# Altium footprint library XILINX-XC7A200T2.PcbLib: 31 footprints (part 2 of 3)
Each footprint in its own frame and in the unit in brackets; x right, y up, seen from the top. Pads: shape width x height; smd on the part's side, far side on the other; paste and mask are expansions set on the pad; w line width, h text height; cw(c..) or ccw(c..) is an arc to the next point about the centre after c.
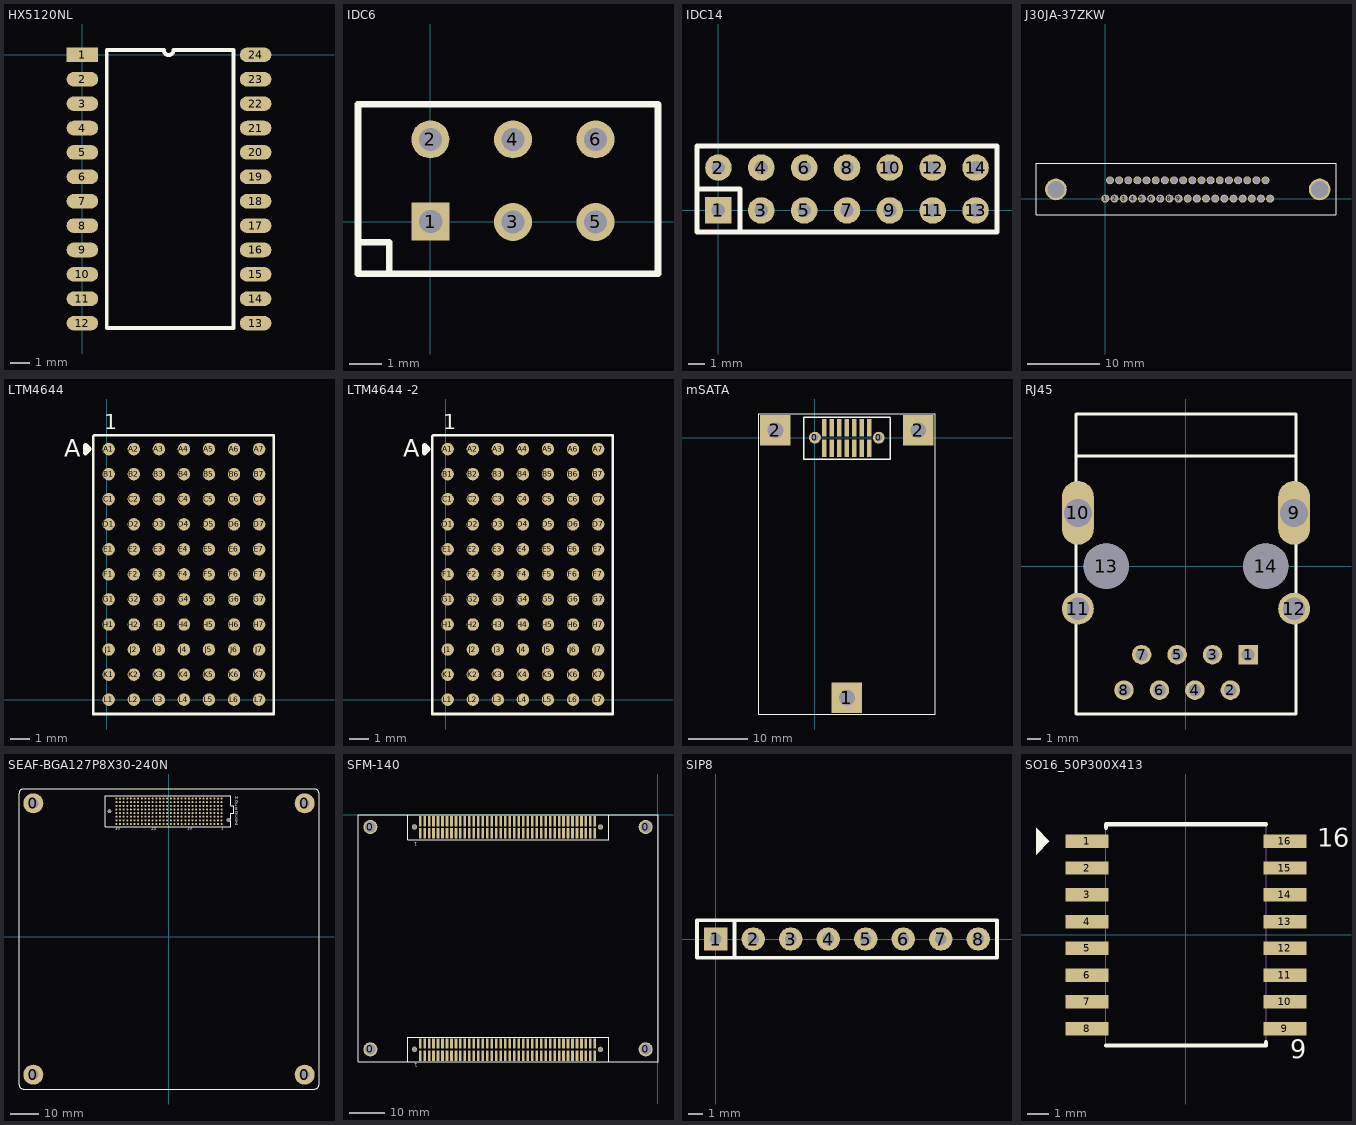
[diagram p1: the footprints below, top view; thin cyan lines are the x and y axes]

## HX5120NL [mm]
pads (24):
  rect 1.65x0.76 smd: 1(0,0)
  oval 1.65x0.76 smd: 2(0,-1.27) 3(0,-2.54) 4(0,-3.81) 5(0,-5.08) 6(0,-6.35) 7(0,-7.62) 8(0,-8.89) 9(0,-10.16) 10(0,-11.43) 11(0,-12.7) 12(0,-13.97) 13(9.02,-13.97) 14(9.02,-12.7) 15(9.02,-11.43) 16(9.02,-10.16) 17(9.02,-8.89) 18(9.02,-7.62) 19(9.02,-6.35) 20(9.02,-5.08) 21(9.02,-3.81) 22(9.02,-2.54) 23(9.02,-1.27) 24(9.02,0)
Top Overlay:
  lines w0.2: 4.745,0.245 cw(c4.495,0.238) 4.245,0.246 1.27,0.246 1.27,-14.224 7.874,-14.224 7.874,0.246 4.745,0.246

## IDC6 [mil]
pads (6):
  rect 46x46 hole 28: 1(0.4,0.44)
  round 46 hole 28: 2(0,100) 3(100,0) 4(100,100) 5(200,0) 6(200,100)
Top Overlay:
  lines w8: -87.6,-24.56 -49.6,-24.56 -49.6,-62.56 ; -87.6,-62.56 -87.6,142.44 275.59,142.21 275.59,-62.55 -87.6,-62.56

## IDC14 [mil]
pads (14):
  rect 62x62 hole 31.5 square: 1(0,0)
  round 62 hole 31.5 square: 2(0,100) 3(100,0) 4(100,100) 5(200,0) 6(200,100) 7(300,0) 8(300,100) 9(400,0) 10(400,100) 11(500,0) 12(500,100) 13(600,0) 14(600,100)
Top Overlay:
  lines w12: -50,50 50,50 50,-50 ; -50,-50 -50,150 650,150 650,-50 -50,-50

## J30JA-37ZKW [mm]
pads (40):
  round 1.1 hole 0.85: 1(0,0) 2(1.27,0) 3(2.54,0) 4(3.81,0) 5(5.08,0) 6(6.35,0) 7(7.62,0) 8(8.89,0) 9(10.16,0) 10(11.43,0) 11(12.7,0) 12(13.97,0) 13(15.24,0) 14(16.51,0) 15(17.78,0) 16(19.05,0) 17(20.32,0) 18(21.59,0) 19(22.86,0) 20(0.635,2.54) 20(0.635,2.54) 21(1.905,2.54) 22(3.175,2.54) 23(4.445,2.54) 24(5.715,2.54) 25(6.985,2.54) 26(8.255,2.54) 27(9.525,2.54) 28(10.795,2.54) 29(12.065,2.54) 30(13.335,2.54) 31(14.605,2.54) 32(15.875,2.54) 33(17.145,2.54) 34(18.415,2.54) 35(19.685,2.54) 36(20.955,2.54) 37(22.225,2.54)
  round 3 hole 2.4: ""(-6.858,1.27) ""(29.742,1.27)
Top Overlay:
  lines w0.127: -9.627,-2.21 31.953,-2.21 32.004,-2.159 32.004,4.877 -9.627,4.877 -9.627,-2.21

## LTM4644 [mm]
pads (77):
  round 0.63 smd: A1(0.102,12.7) A2(1.372,12.7) A3(2.642,12.7) A4(3.912,12.7) A5(5.182,12.7) A6(6.452,12.7) A7(7.722,12.7) B1(0.102,11.43) B2(1.372,11.43) B3(2.642,11.43) B4(3.912,11.43) B5(5.182,11.43) B6(6.452,11.43) B7(7.722,11.43) C1(0.102,10.16) C2(1.372,10.16) C3(2.642,10.16) C4(3.912,10.16) C5(5.182,10.16) C6(6.452,10.16) C7(7.722,10.16) D1(0.102,8.89) D2(1.372,8.89) D3(2.642,8.89) D4(3.912,8.89) D5(5.182,8.89) D6(6.452,8.89) D7(7.722,8.89) E1(0.102,7.62) E2(1.372,7.62) E3(2.642,7.62) E4(3.912,7.62) E5(5.182,7.62) E6(6.452,7.62) E7(7.722,7.62) F1(0.102,6.35) F2(1.372,6.35) F3(2.642,6.35) F4(3.912,6.35) F5(5.182,6.35) F6(6.452,6.35) F7(7.722,6.35) G1(0.102,5.08) G2(1.372,5.08) G3(2.642,5.08) G4(3.912,5.08) G5(5.182,5.08) G6(6.452,5.08) G7(7.722,5.08) H1(0.102,3.81) H2(1.372,3.81) H3(2.642,3.81) H4(3.912,3.81) H5(5.182,3.81) H6(6.452,3.81) H7(7.722,3.81) J1(0.102,2.54) J2(1.372,2.54) J3(2.642,2.54) J4(3.912,2.54) J5(5.182,2.54) J6(6.452,2.54) J7(7.722,2.54) K1(0.102,1.27) K2(1.372,1.27) K3(2.642,1.27) K4(3.912,1.27) K5(5.182,1.27) K6(6.452,1.27) K7(7.722,1.27) L1(0.102,0) L2(1.372,0) L3(2.642,0) L4(3.912,0) L5(5.182,0) L6(6.452,0) L7(7.722,0)
Top Overlay:
  lines w0.127: -0.678,13.357 -0.635,13.4 ; -0.678,13.357 -0.635,13.4 ; -0.678,13.357 -0.678,13.275 -0.678,-0.725 8.472,-0.725 8.472,13.4 -0.635,13.4
  lines w0.254: -1.079,12.509 -0.889,12.7 -1.079,12.89 -1.079,12.509
  text "1" at -0.127,13.716 h0.76
  text "A" at -2.159,12.319 h0.89

## LTM4644 -2 [mm]
pads (77):
  round 0.63 smd: A1(0.102,12.7) A2(1.372,12.7) A3(2.642,12.7) A4(3.912,12.7) A5(5.182,12.7) A6(6.452,12.7) A7(7.722,12.7) B1(0.102,11.43) B2(1.372,11.43) B3(2.642,11.43) B4(3.912,11.43) B5(5.182,11.43) B6(6.452,11.43) B7(7.722,11.43) C1(0.102,10.16) C2(1.372,10.16) C3(2.642,10.16) C4(3.912,10.16) C5(5.182,10.16) C6(6.452,10.16) C7(7.722,10.16) D1(0.102,8.89) D2(1.372,8.89) D3(2.642,8.89) D4(3.912,8.89) D5(5.182,8.89) D6(6.452,8.89) D7(7.722,8.89) E1(0.102,7.62) E2(1.372,7.62) E3(2.642,7.62) E4(3.912,7.62) E5(5.182,7.62) E6(6.452,7.62) E7(7.722,7.62) F1(0.102,6.35) F2(1.372,6.35) F3(2.642,6.35) F4(3.912,6.35) F5(5.182,6.35) F6(6.452,6.35) F7(7.722,6.35) G1(0.102,5.08) G2(1.372,5.08) G3(2.642,5.08) G4(3.912,5.08) G5(5.182,5.08) G6(6.452,5.08) G7(7.722,5.08) H1(0.102,3.81) H2(1.372,3.81) H3(2.642,3.81) H4(3.912,3.81) H5(5.182,3.81) H6(6.452,3.81) H7(7.722,3.81) J1(0.102,2.54) J2(1.372,2.54) J3(2.642,2.54) J4(3.912,2.54) J5(5.182,2.54) J6(6.452,2.54) J7(7.722,2.54) K1(0.102,1.27) K2(1.372,1.27) K3(2.642,1.27) K4(3.912,1.27) K5(5.182,1.27) K6(6.452,1.27) K7(7.722,1.27) L1(0.102,0) L2(1.372,0) L3(2.642,0) L4(3.912,0) L5(5.182,0) L6(6.452,0) L7(7.722,0)
Top Overlay:
  lines w0.127: -0.678,13.357 -0.678,13.275 -0.678,-0.725 8.472,-0.725 8.472,13.4 -0.635,13.4 ; -0.678,13.357 -0.635,13.4 ; -0.678,13.357 -0.635,13.4
  lines w0.254: -1.079,12.509 -1.079,12.89 -0.889,12.7 -1.079,12.509
  text "A" at -2.159,12.319 h0.89
  text "1" at -0.127,13.716 h0.76

## mSATA [mil]
pads (19):
  round 78.74 / inner round 0 / far side round 0 hole 47.24: 0(0,0)
  round 78.74 hole 47.24: 0(425.2,0)
  rect 29x115 smd: 1(63,-71) 2(63,65) 3(113,-71) 4(113,65) 5(163,-71) 6(163,65) 7(213,-71) 8(213,65) 9(263,-71) 10(263,65) 11(313,-71) 12(313,65) 13(363,-71) 14(363,65)
  rect 204.72x204.72 hole 106.3: 1(212.6,-1734.25) 2(-263.78,49.21)
  rect 204.72x204.72 hole 102.36: 2(688.98,49.21)
Top Overlay:
  lines w5: -251.97,36.42 -251.97,39.37 ; -374.02,-1842.52 213.58,-1842.52 801.18,-1842.52 801.18,157.48 213.58,157.48 -374.02,157.48 -374.02,-1842.52
  lines w10: -75,-143.2 501,-143.2 501,136.8 -75,136.8 -75,-143.2

## RJ45 [mil]
height 230.31
pads (14):
  rect 55x55 / inner round 55 / far side rect 55x55 hole 36: 1(175.01,-250.19)
  round 55 hole 36: 2(125.01,-350.19) 3(75.01,-250.19) 4(25.01,-350.19) 5(-24.99,-250.19) 6(-74.99,-350.19) 7(-124.99,-250.19) 8(-174.99,-350.19)
  oval 90x180 hole 78.74: 9(304.92,149.8) 10(-304.92,149.8)
  round 90 hole 63: 11(-304.91,-120.27) 12(304.93,-120.27)
  round 128 hole 128 unplated: 13(-224.99,-0.19) 14(225.01,-0.19)
Top Overlay:
  lines w8: -309.99,310.83 310.01,310.83 ; -309.99,-417.52 -309.99,428.94 310.01,428.94 310.01,-417.52 -309.99,-417.52

## SEAF-BGA127P8X30-240N [mm]
pads (246):
  round 7 hole 3.5: 0(-47.5,-48.325) 0(-47.5,46.675) 0(47.5,-48.325) 0(47.5,46.675)
  round 1.27 hole 1.27: 0(-20.846,43.88) 0(20.834,40.83)
  round 0.7 smd: A1(18.41,39.435) A2(17.14,39.435) A3(15.87,39.435) A4(14.6,39.435) A5(13.33,39.435) A6(12.06,39.435) A7(10.79,39.435) A8(9.52,39.435) A9(8.25,39.435) A10(6.98,39.435) A11(5.71,39.435) A12(4.44,39.435) A13(3.17,39.435) A14(1.9,39.435) A15(0.63,39.435) A16(-0.64,39.435) A17(-1.91,39.435) A18(-3.18,39.435) A19(-4.45,39.435) A20(-5.72,39.435) A21(-6.99,39.435) A22(-8.26,39.435) A23(-9.53,39.435) A24(-10.8,39.435) A25(-12.07,39.435) A26(-13.34,39.435) A27(-14.61,39.435) A28(-15.88,39.435) A29(-17.15,39.435) A30(-18.42,39.435) B1(18.41,40.705) B2(17.14,40.705) B3(15.87,40.705) B4(14.6,40.705) B5(13.33,40.705) B6(12.06,40.705) B7(10.79,40.705) B8(9.52,40.705) B9(8.25,40.705) B10(6.98,40.705) B11(5.71,40.705) B12(4.44,40.705) B13(3.17,40.705) B14(1.9,40.705) B15(0.63,40.705) B16(-0.64,40.705) B17(-1.91,40.705) B18(-3.18,40.705) B19(-4.45,40.705) B20(-5.72,40.705) B21(-6.99,40.705) B22(-8.26,40.705) B23(-9.53,40.705) B24(-10.8,40.705) B25(-12.07,40.705) B26(-13.34,40.705) B27(-14.61,40.705) B28(-15.88,40.705) B29(-17.15,40.705) B30(-18.42,40.705) C1(18.41,41.975) C2(17.14,41.975) C3(15.87,41.975) C4(14.6,41.975) C5(13.33,41.975) C6(12.06,41.975) C7(10.79,41.975) C8(9.52,41.975) C9(8.25,41.975) C10(6.98,41.975) C11(5.71,41.975) C12(4.44,41.975) C13(3.17,41.975) C14(1.9,41.975) C15(0.63,41.975) C16(-0.64,41.975) C17(-1.91,41.975) C18(-3.18,41.975) C19(-4.45,41.975) C20(-5.72,41.975) C21(-6.99,41.975) C22(-8.26,41.975) C23(-9.53,41.975) C24(-10.8,41.975) C25(-12.07,41.975) C26(-13.34,41.975) C27(-14.61,41.975) C28(-15.88,41.975) C29(-17.15,41.975) C30(-18.42,41.975) D1(18.41,43.245) D2(17.14,43.245) D3(15.87,43.245) D4(14.6,43.245) D5(13.33,43.245) D6(12.06,43.245) D7(10.79,43.245) D8(9.52,43.245) D9(8.25,43.245) D10(6.98,43.245) D11(5.71,43.245) D12(4.44,43.245) D13(3.17,43.245) D14(1.9,43.245) D15(0.63,43.245) D16(-0.64,43.245) D17(-1.91,43.245) D18(-3.18,43.245) D19(-4.45,43.245) D20(-5.72,43.245) D21(-6.99,43.245) D22(-8.26,43.245) D23(-9.53,43.245) D24(-10.8,43.245) D25(-12.07,43.245) D26(-13.34,43.245) D27(-14.61,43.245) D28(-15.88,43.245) D29(-17.15,43.245) D30(-18.42,43.245) E1(18.41,44.515) E2(17.14,44.515) E3(15.87,44.515) E4(14.6,44.515) E5(13.33,44.515) E6(12.06,44.515) E7(10.79,44.515) E8(9.52,44.515) E9(8.25,44.515) E10(6.98,44.515) E11(5.71,44.515) E12(4.44,44.515) E13(3.17,44.515) E14(1.9,44.515) E15(0.63,44.515) E16(-0.64,44.515) E17(-1.91,44.515) E18(-3.18,44.515) E19(-4.45,44.515) E20(-5.72,44.515) E21(-6.99,44.515) E22(-8.26,44.515) E23(-9.53,44.515) E24(-10.8,44.515) E25(-12.07,44.515) E26(-13.34,44.515) E27(-14.61,44.515) E28(-15.88,44.515) E29(-17.15,44.515) E30(-18.42,44.515) F1(18.41,45.785) F2(17.14,45.785) F3(15.87,45.785) F4(14.6,45.785) F5(13.33,45.785) F6(12.06,45.785) F7(10.79,45.785) F8(9.52,45.785) F9(8.25,45.785) F10(6.98,45.785) F11(5.71,45.785) F12(4.44,45.785) F13(3.17,45.785) F14(1.9,45.785) F15(0.63,45.785) F16(-0.64,45.785) F17(-1.91,45.785) F18(-3.18,45.785) F19(-4.45,45.785) F20(-5.72,45.785) F21(-6.99,45.785) F22(-8.26,45.785) F23(-9.53,45.785) F24(-10.8,45.785) F25(-12.07,45.785) F26(-13.34,45.785) F27(-14.61,45.785) F28(-15.88,45.785) F29(-17.15,45.785) F30(-18.42,45.785) G1(18.41,47.055) G2(17.14,47.055) G3(15.87,47.055) G4(14.6,47.055) G5(13.33,47.055) G6(12.06,47.055) G7(10.79,47.055) G8(9.52,47.055) G9(8.25,47.055) G10(6.98,47.055) G11(5.71,47.055) G12(4.44,47.055) G13(3.17,47.055) G14(1.9,47.055) G15(0.63,47.055) G16(-0.64,47.055) G17(-1.91,47.055) G18(-3.18,47.055) G19(-4.45,47.055) G20(-5.72,47.055) G21(-6.99,47.055) G22(-8.26,47.055) G23(-9.53,47.055) G24(-10.8,47.055) G25(-12.07,47.055) G26(-13.34,47.055) G27(-14.61,47.055) G28(-15.88,47.055) G29(-17.15,47.055) G30(-18.42,47.055) H1(18.41,48.325) H2(17.14,48.325) H3(15.87,48.325) H4(14.6,48.325) H5(13.33,48.325) H6(12.06,48.325) H7(10.79,48.325) H8(9.52,48.325) H9(8.25,48.325) H10(6.98,48.325) H11(5.71,48.325) H12(4.44,48.325) H13(3.17,48.325) H14(1.9,48.325) H15(0.63,48.325) H16(-0.64,48.325) H17(-1.91,48.325) H18(-3.18,48.325) H19(-4.45,48.325) H20(-5.72,48.325) H21(-6.99,48.325) H22(-8.26,48.325) H23(-9.53,48.325) H24(-10.8,48.325) H25(-12.07,48.325) H26(-13.34,48.325) H27(-14.61,48.325) H28(-15.88,48.325) H29(-17.15,48.325) H30(-18.42,48.325)
Top Overlay:
  lines w0.127: -52.5,-51.825 ccw(c-51,-51.825) -51,-53.325 51,-53.325 ccw(c51,-51.825) 52.5,-51.825 52.5,50.175 ccw(c51,50.175) 51,51.675 -51,51.675 ccw(c-51,50.175) -52.5,50.175 -52.5,-51.825 ; -22.38,38.51 -22.38,49.25 21.53,49.25 21.53,45.874 22.691,45.874 22.691,43.26 21.53,43.26 21.53,38.51 -22.38,38.51
  text "1" at 18.25,37.356 h1
  text "10" at 6.39,37.363 h1
  text "20" at -6.242,37.322 h1
  text "30" at -18.851,37.441 h1
  text "H" at 23.157,48.038 h1
  text "F" at 23.157,45.446 h1
  text "G" at 23.157,46.742 h1
  text "D" at 23.157,42.854 h1
  text "E" at 23.157,44.15 h1
  text "C" at 23.157,41.558 h1
  text "B" at 23.157,40.262 h1
  text "A" at 23.157,38.966 h1

## SFM-140 [mil]
height 230.31
pads (168):
  round 157.48 hole 118.11: 0(-3208.66,-2618.11) 0(-3208.66,-137.8) 0(-137.8,-2618.11) 0(-137.8,-137.8)
  round 60 / inner round 0 / far side round 0 hole 47.24: 0(-2716.73,-2617.11) 0(-2716.73,-136.8) 0(-641.73,-2618.11) 0(-641.73,-137.8)
  rect 29x115 smd: 1(-2653.73,-207.8) 2(-2653.73,-71.8) 3(-2603.73,-207.8) 4(-2603.73,-71.8) 5(-2553.73,-207.8) 6(-2553.73,-71.8) 7(-2503.73,-207.8) 8(-2503.73,-71.8) 9(-2453.73,-207.8) 10(-2453.73,-71.8) 11(-2403.73,-207.8) 12(-2403.73,-71.8) 13(-2353.73,-207.8) 14(-2353.73,-71.8) 15(-2303.73,-207.8) 16(-2303.73,-71.8) 17(-2253.73,-207.8) 18(-2253.73,-71.8) 19(-2203.73,-207.8) 20(-2203.73,-71.8) 21(-2153.73,-207.8) 22(-2153.73,-71.8) 23(-2103.73,-207.8) 24(-2103.73,-71.8) 25(-2053.73,-207.8) 26(-2053.73,-71.8) 27(-2003.73,-207.8) 28(-2003.73,-71.8) 29(-1953.73,-207.8) 30(-1953.73,-71.8) 31(-1903.73,-207.8) 32(-1903.73,-71.8) 33(-1853.73,-207.8) 34(-1853.73,-71.8) 35(-1803.73,-207.8) 36(-1803.73,-71.8) 37(-1753.73,-207.8) 38(-1753.73,-71.8) 39(-1703.73,-207.8) 40(-1703.73,-71.8) 41(-1653.73,-207.8) 42(-1653.73,-71.8) 43(-1603.73,-207.8) 44(-1603.73,-71.8) 45(-1553.73,-207.8) 46(-1553.73,-71.8) 47(-1503.73,-207.8) 48(-1503.73,-71.8) 49(-1453.73,-207.8) 50(-1453.73,-71.8) 51(-1403.73,-207.8) 52(-1403.73,-71.8) 53(-1353.73,-207.8) 54(-1353.73,-71.8) 55(-1303.73,-207.8) 56(-1303.73,-71.8) 57(-1253.73,-207.8) 58(-1253.73,-71.8) 59(-1203.73,-207.8) 60(-1203.73,-71.8) 61(-1153.73,-207.8) 62(-1153.73,-71.8) 63(-1103.73,-207.8) 64(-1103.73,-71.8) 65(-1053.73,-207.8) 66(-1053.73,-71.8) 67(-1003.73,-207.8) 68(-1003.73,-71.8) 69(-953.73,-207.8) 70(-953.73,-71.8) 71(-903.73,-207.8) 72(-903.73,-71.8) 73(-853.73,-207.8) 74(-853.73,-71.8) 75(-803.73,-207.8) 76(-803.73,-71.8) 77(-753.73,-207.8) 78(-753.73,-71.8) 79(-703.73,-207.8) 80(-703.73,-71.8) J2_1(-2653.73,-2688.11) J2_2(-2653.73,-2552.11) J2_3(-2603.73,-2688.11) J2_4(-2603.73,-2552.11) J2_5(-2553.73,-2688.11) J2_6(-2553.73,-2552.11) J2_7(-2503.73,-2688.11) J2_8(-2503.73,-2552.11) J2_9(-2453.73,-2688.11) J2_10(-2453.73,-2552.11) J2_11(-2403.73,-2688.11) J2_12(-2403.73,-2552.11) J2_13(-2353.73,-2688.11) J2_14(-2353.73,-2552.11) J2_15(-2303.73,-2688.11) J2_16(-2303.73,-2552.11) J2_17(-2253.73,-2688.11) J2_18(-2253.73,-2552.11) J2_19(-2203.73,-2688.11) J2_20(-2203.73,-2552.11) J2_21(-2153.73,-2688.11) J2_22(-2153.73,-2552.11) J2_23(-2103.73,-2688.11) J2_24(-2103.73,-2552.11) J2_25(-2053.73,-2688.11) J2_26(-2053.73,-2552.11) J2_27(-2003.73,-2688.11) J2_28(-2003.73,-2552.11) J2_29(-1953.73,-2688.11) J2_30(-1953.73,-2552.11) J2_31(-1903.73,-2688.11) J2_32(-1903.73,-2552.11) J2_33(-1853.73,-2688.11) J2_34(-1853.73,-2552.11) J2_35(-1803.73,-2688.11) J2_36(-1803.73,-2552.11) J2_37(-1753.73,-2688.11) J2_38(-1753.73,-2552.11) J2_39(-1703.73,-2688.11) J2_40(-1703.73,-2552.11) J2_41(-1653.73,-2688.11) J2_42(-1653.73,-2552.11) J2_43(-1603.73,-2688.11) J2_44(-1603.73,-2552.11) J2_45(-1553.73,-2688.11) J2_46(-1553.73,-2552.11) J2_47(-1503.73,-2688.11) J2_48(-1503.73,-2552.11) J2_49(-1453.73,-2688.11) J2_50(-1453.73,-2552.11) J2_51(-1403.73,-2688.11) J2_52(-1403.73,-2552.11) J2_53(-1353.73,-2688.11) J2_54(-1353.73,-2552.11) J2_55(-1303.73,-2688.11) J2_56(-1303.73,-2552.11) J2_57(-1253.73,-2688.11) J2_58(-1253.73,-2552.11) J2_59(-1203.73,-2688.11) J2_60(-1203.73,-2552.11) J2_61(-1153.73,-2688.11) J2_62(-1153.73,-2552.11) J2_63(-1103.73,-2688.11) J2_64(-1103.73,-2552.11) J2_65(-1053.73,-2688.11) J2_66(-1053.73,-2552.11) J2_67(-1003.73,-2688.11) J2_68(-1003.73,-2552.11) J2_69(-953.73,-2688.11) J2_70(-953.73,-2552.11) J2_71(-903.73,-2688.11) J2_72(-903.73,-2552.11) J2_73(-853.73,-2688.11) J2_74(-853.73,-2552.11) J2_75(-803.73,-2688.11) J2_76(-803.73,-2552.11) J2_77(-753.73,-2688.11) J2_78(-753.73,-2552.11) J2_79(-703.73,-2688.11) J2_80(-703.73,-2552.11)
Top Overlay:
  lines w10: -2791.73,-2754 -2791.73,-2480.31 -548.73,-2480.31 -548.73,-2754 ; -2791.73,0 -2791.73,-280 -548.73,-280 -548.73,0 ; -3346.46,-2755.91 0,-2755.91 0,0 -3346.46,0 -3346.46,-2755.91
  text "1" at -2680,-2774 h40
  text "1" at -2683,-305 h40

## SIP8 [mil]
pads (8):
  rect 62x62 hole 31.5: 1(0,0)
  round 62 hole 31.5: 2(100,0) 3(200,0) 4(300,0) 5(400,0) 6(500,0) 7(600,0) 8(700,0)
Top Overlay:
  lines w10: 50,-50 50,50 ; -50,-50 -50,50 750,50 750,-50 -50,-50

## SO16_50P300X413 [mil] "SO16_50P300X413"
pads (16):
  rect 80x25 smd: 1(-184.5,175) 2(-184.5,125) 3(-184.5,75) 4(-184.5,25) 5(-184.5,-25) 6(-184.5,-75) 7(-184.5,-125) 8(-184.5,-175) 9(184.5,-175) 10(184.5,-125) 11(184.5,-75) 12(184.5,-25) 13(184.5,25) 14(184.5,75) 15(184.5,125) 16(184.5,175)
Top Overlay:
  pour cut-out: -280,200 -280,150 -255,175
  lines w8: -149.5,-206.5 149.5,-206.5 149.5,-200 ; -149.5,200 -149.5,206.5 149.5,206.5
  text "9" at 195.01,-230 h35
  text "16" at 245.01,165 h35
Mechanical 1:
  lines w1: -149.5,-206.5 149.5,-206.5 149.5,206.5 -149.5,206.5 -149.5,-206.5